# Altium schematic symbol library suppervisor_circuits.SchLib: 13 symbols
Pins are listed as number, name and electrical type; pins without a type are passive.

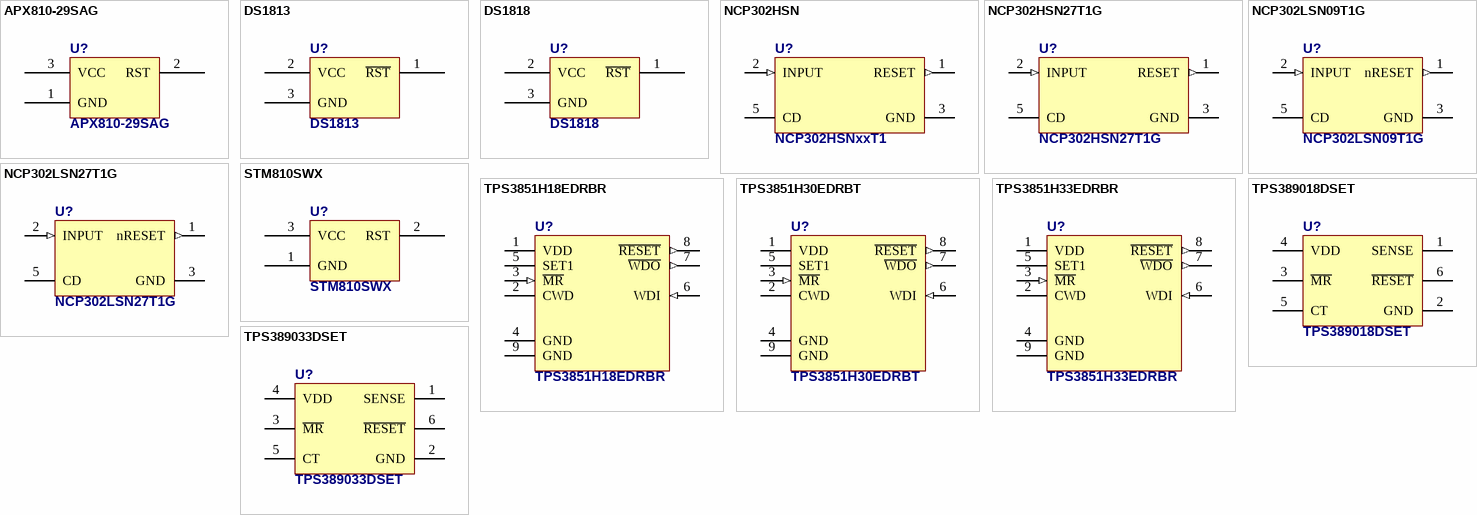
[diagram p0: symbols APX810-29SAG to TPS389033DSET]

## APX810-29SAG
designator U?
30uA Supply Current, 2,93V Threshold, Push-Pull, Active-High Reset Curcuit
footprint SOT-23
pins: 1 GND, 2 RST, 3 VCC

## DS1813
designator U?
5V EconoReset with Pushbutton
footprint SOT-23
pins: 1 ~{RST}, 2 VCC, 3 GND

## DS1818
designator U?
3,3V EconoReset with Pushbutton
footprint SOT-23
pins: 1 ~{RST}, 2 VCC, 3 GND

## NCP302HSN
designator U?, comment NCP302HSNxxT1
Voltage Detector Series with Programmable Delay and Push-Pull Output
footprint SOT-23-5 (, AKA: SOT753 (NXP), TSOP5 (NXP))
pins: 1 RESET (out), 2 INPUT (in), 3 GND, 5 CD (oc)

## NCP302HSN27T1G
designator U?
Active High 2.7V Voltage Detector with Programmable Delay and Push-Pull Output
footprint SOT-23-5 (, AKA: SOT753 (NXP), TSOP5 (NXP))
pins: 1 RESET (out), 2 INPUT (in), 3 GND, 5 CD (oc)

## NCP302LSN09T1G
designator U?
0,9V Voltage Detector Series with Programmable Delay and Open Drain Output
footprint SOT-23-5 (, AKA: SOT753 (NXP), TSOP5 (NXP))
pins: 1 nRESET (out), 2 INPUT (in), 3 GND, 5 CD (oc)

## NCP302LSN27T1G
designator U?
Active Low 2,7V Voltage Detector with Programmable Delay and Open Drain Output
footprint SOT-23-5 (, AKA: SOT753 (NXP), TSOP5 (NXP))
pins: 1 nRESET (out), 2 INPUT (in), 3 GND, 5 CD (oc)

## STM810SWX
designator U?
6uA Supply Current, 2,93V Threshold, Push-Pull, Active-High Reset Curcuit
footprint SOT-23
pins: 1 GND, 2 RST, 3 VCC

## TPS3851H18EDRBR
designator U?
Precision Voltage Supervisor with Integrated Watchdog Timer
footprint VSON8 (8 lead 3 x 3 mm)
pins: 1 VDD (power), 2 CWD, 3 ~{MR} (in), 4 GND (power), 5 SET1, 6 WDI (in), 7 ~{WDO} (out), 8 ~{RESET} (out), 9 GND (power)

## TPS3851H30EDRBT
designator U?
Precision Voltage Supervisor with Integrated Watchdog Timer
footprint VSON8 (8 lead 3 x 3 mm)
pins: 1 VDD (power), 2 CWD, 3 ~{MR} (in), 4 GND (power), 5 SET1, 6 WDI (in), 7 ~{WDO} (out), 8 ~{RESET} (out), 9 GND (power)

## TPS3851H33EDRBR
designator U?
Precision Voltage Supervisor with Integrated Watchdog Timer
footprint VSON8 (8 lead 3 x 3 mm)
pins: 1 VDD (power), 2 CWD, 3 ~{MR} (in), 4 GND (power), 5 SET1, 6 WDI (in), 7 ~{WDO} (out), 8 ~{RESET} (out), 9 GND (power)

## TPS389018DSET
designator U?
1V8 Low Quiescent Current, 1% Accurate Supervisor with Programmable Delay
footprint WSON6
pins: 1 SENSE, 2 GND, 3 ~{MR}, 4 VDD, 5 CT, 6 ~{RESET}

## TPS389033DSET
designator U?
3V3 Low Quiescent Current, 1% Accurate Supervisor with Programmable Delay
footprint WSON6
pins: 1 SENSE, 2 GND, 3 ~{MR}, 4 VDD, 5 CT, 6 ~{RESET}